# Altium schematic symbol library sym-0021.SchLib: 1 symbol
Pins are listed as number, name and electrical type; pins without a type are passive.

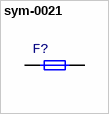
[diagram p0: symbol sym-0021]

## sym-0021
designator F?
General Fuse
pins: 1, 2
2 alternate drawings of the same symbol